# Altium footprint library KF128-2P.PcbLib: 1 footprints
Each footprint in its own frame and in the unit in brackets; x right, y up, seen from the top. Pads: shape width x height; smd on the part's side, far side on the other; paste and mask are expansions set on the pad; w line width, h text height; cw(c..) or ccw(c..) is an arc to the next point about the centre after c.
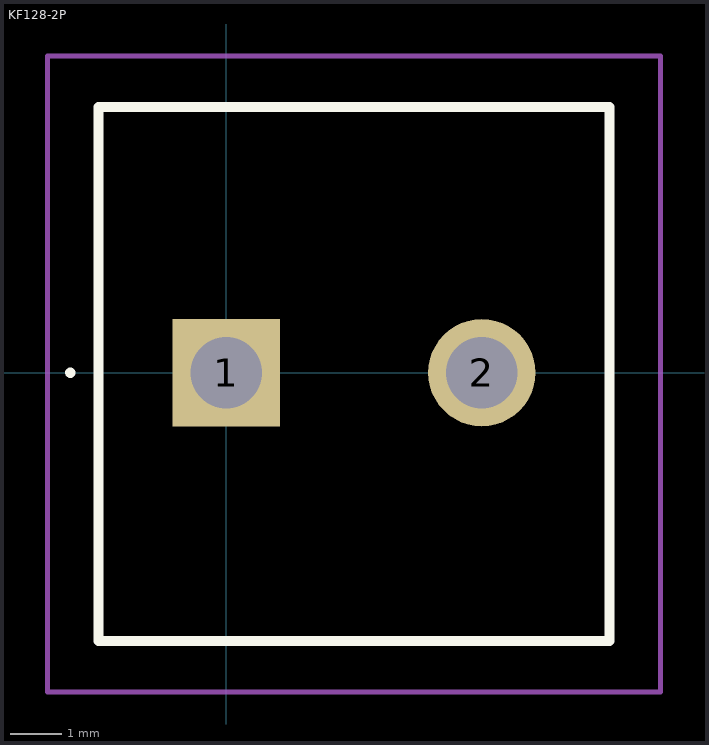
[diagram p0: the footprint, top view; thin cyan lines are the x and y axes]

## KF128-2P [mm]
pads (2):
  rect 2.1x2.1 hole 1.4: 1(0,0)
  round 2.1 hole 1.4: 2(5,0)
Top Overlay:
  lines w0.1: -3.1,0 cw(c-3.05,0) -3,0 cw(c-3.05,0) -3.1,0
  lines w0.2: -2.5,-5.25 -2.5,5.2 7.5,5.2 7.5,-5.25 -2.5,-5.25
Mechanical 15:
  lines w0.1: -2.5,-5.25 -2.5,5.2 7.5,5.2 7.5,-5.25 -2.5,-5.25
Mechanical 20:
  lines w0.1: -3.5,-6.25 -3.5,6.2 8.5,6.2 8.5,-6.25 -3.5,-6.25
3D body "KF128-5.08-2P.STEP": height 14.35, standoff -3.6, extent -2.586,-4.966 8.174,5.334